# Altium footprint library Switch.PcbLib: 22 footprints (part 2 of 2)
Each footprint in its own frame and in the unit in brackets; x right, y up, seen from the top. Pads: shape width x height; smd on the part's side, far side on the other; paste and mask are expansions set on the pad; w line width, h text height; cw(c..) or ccw(c..) is an arc to the next point about the centre after c.
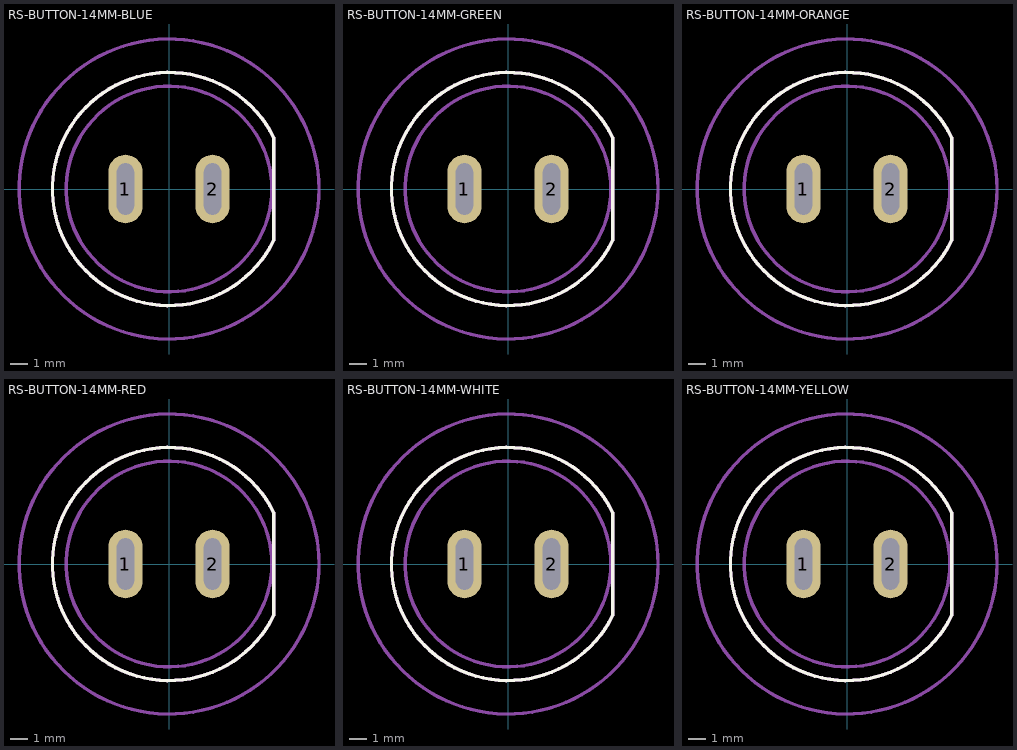
[diagram p1: the footprints below, top view; thin cyan lines are the x and y axes]

## RS-BUTTON-14MM-BLUE [mm]
pads (2):
  oval 2x4 hole 1 slot 3 at 90 deg: 1(-2.54,0) 2(2.54,0)
Top Overlay:
  lines w0.2: 6.1,-3.005 cw(c0,0) 6.1,3.005 6.1,-3.005
Panel Cutout:
  lines w0.2: 6.1,-3.005 cw(c0,0) 6.1,3.005 6.1,-3.005
Top Assembly:
  circle w0.2: c0,0 r6
  circle w0.2: c0,0 r8.75
3D body "Button_RS_14mm_blue.step": height 18, standoff -2.4, extent -8.738,-8.747 8.75,8.747

## RS-BUTTON-14MM-GREEN [mm]
pads (2):
  oval 2x4 hole 1 slot 3 at 90 deg: 1(-2.54,0) 2(2.54,0)
Top Overlay:
  lines w0.2: 6.1,-3.005 cw(c0,0) 6.1,3.005 6.1,-3.005
Panel Cutout:
  lines w0.2: 6.1,-3.005 cw(c0,0) 6.1,3.005 6.1,-3.005
Top Assembly:
  circle w0.2: c0,0 r6
  circle w0.2: c0,0 r8.75
3D body "Button_RS_14mm_green.step": height 18, standoff -2.4, extent -8.738,-8.747 8.75,8.747

## RS-BUTTON-14MM-ORANGE [mm]
pads (2):
  oval 2x4 hole 1 slot 3 at 90 deg: 1(-2.54,0) 2(2.54,0)
Top Overlay:
  lines w0.2: 6.1,-3.005 cw(c0,0) 6.1,3.005 6.1,-3.005
Panel Cutout:
  lines w0.2: 6.1,-3.005 cw(c0,0) 6.1,3.005 6.1,-3.005
Top Assembly:
  circle w0.2: c0,0 r6
  circle w0.2: c0,0 r8.75
3D body "Button_RS_14mm_orange.step": height 18, standoff -2.4, extent -8.738,-8.747 8.75,8.747

## RS-BUTTON-14MM-RED [mm]
pads (2):
  oval 2x4 hole 1 slot 3 at 90 deg: 1(-2.54,0) 2(2.54,0)
Top Overlay:
  lines w0.2: 6.1,-3.005 cw(c0,0) 6.1,3.005 6.1,-3.005
Panel Cutout:
  lines w0.2: 6.1,-3.005 cw(c0,0) 6.1,3.005 6.1,-3.005
Top Assembly:
  circle w0.2: c0,0 r6
  circle w0.2: c0,0 r8.75
3D body "Button_RS_14mm_red.step": height 18, standoff -2.4, extent -8.738,-8.747 8.75,8.747

## RS-BUTTON-14MM-WHITE [mm]
pads (2):
  oval 2x4 hole 1 slot 3 at 90 deg: 1(-2.54,0) 2(2.54,0)
Top Overlay:
  lines w0.2: 6.1,-3.005 cw(c0,0) 6.1,3.005 6.1,-3.005
Panel Cutout:
  lines w0.2: 6.1,-3.005 cw(c0,0) 6.1,3.005 6.1,-3.005
Top Assembly:
  circle w0.2: c0,0 r6
  circle w0.2: c0,0 r8.75
3D body "Button_RS_14mm_white.step": height 18, standoff -2.4, extent -8.738,-8.747 8.75,8.747

## RS-BUTTON-14MM-YELLOW [mm]
pads (2):
  oval 2x4 hole 1 slot 3 at 90 deg: 1(-2.54,0) 2(2.54,0)
Top Overlay:
  lines w0.2: 6.1,-3.005 cw(c0,0) 6.1,3.005 6.1,-3.005
Panel Cutout:
  lines w0.2: 6.1,-3.005 cw(c0,0) 6.1,3.005 6.1,-3.005
Top Assembly:
  circle w0.2: c0,0 r6
  circle w0.2: c0,0 r8.75
3D body "Button_RS_14mm_yellow.step": height 18, standoff -2.4, extent -8.738,-8.747 8.75,8.747